# Altium footprint library WLE5_WB.PcbLib: 5 footprints
Each footprint in its own frame and in the unit in brackets; x right, y up, seen from the top. Pads: shape width x height; smd on the part's side, far side on the other; paste and mask are expansions set on the pad; w line width, h text height; cw(c..) or ccw(c..) is an arc to the next point about the centre after c.
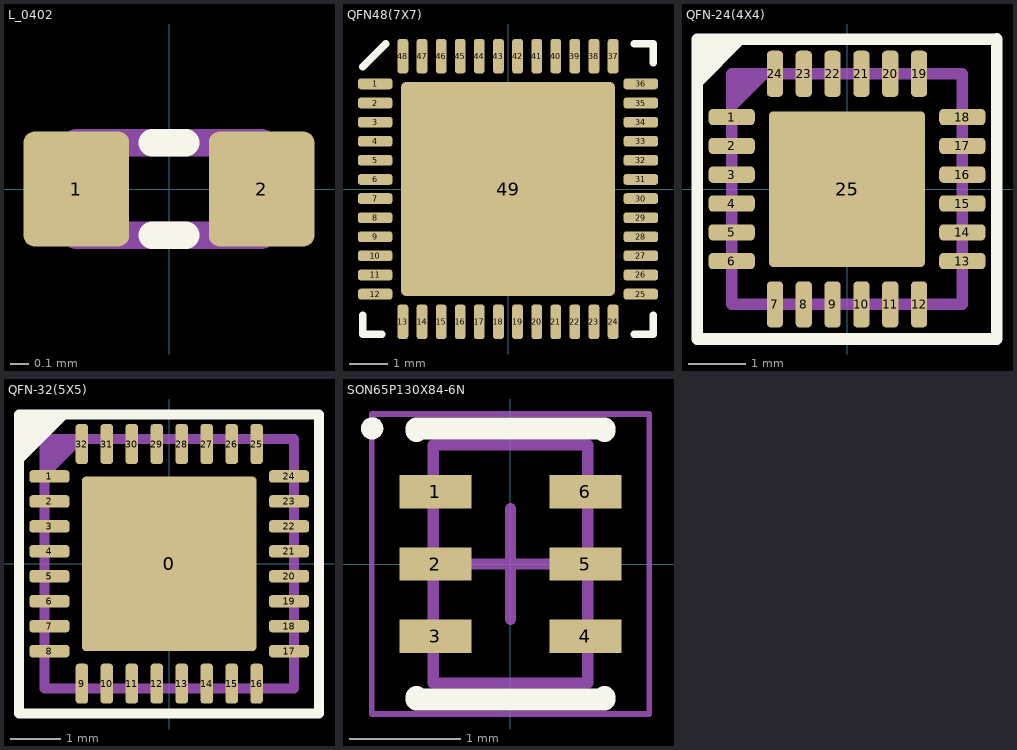
[diagram p0: the footprints below, top view; thin cyan lines are the x and y axes]

## L_0402 [mm]
pads (2):
  rrect20% 0.57x0.62 smd mask+0.06: 1(-0.5,0) 2(0.5,0)
Top Overlay:
  lines w0.15: -0.09,-0.25 0.09,-0.25 ; -0.09,0.25 0.09,0.25
Mechanical 7:
  lines w0.15: -0.5,-0.25 0.5,-0.25 0.5,0.25 -0.5,0.25 -0.5,-0.25
3D body "User Library-cap_0402.step": height 0.5, standoff 0, extent -0.5,-0.25 0.5,0.25

## QFN48(7X7) [mm]
pads (49):
  rrect50% 0.9x0.28 smd: 1(-3.475,2.75) 2(-3.475,2.25) 3(-3.475,1.75) 4(-3.475,1.25) 5(-3.475,0.75) 6(-3.475,0.25) 7(-3.475,-0.25) 8(-3.475,-0.75) 9(-3.475,-1.25) 10(-3.475,-1.75) 11(-3.475,-2.25) 12(-3.475,-2.75) 25(3.475,-2.75) 26(3.475,-2.25) 27(3.475,-1.75) 28(3.475,-1.25) 29(3.475,-0.75) 30(3.475,-0.25) 31(3.475,0.25) 32(3.475,0.75) 33(3.475,1.25) 34(3.475,1.75) 35(3.475,2.25) 36(3.475,2.75)
  rrect50% 0.28x0.9 smd: 13(-2.75,-3.475) 14(-2.25,-3.475) 15(-1.75,-3.475) 16(-1.25,-3.475) 17(-0.75,-3.475) 18(-0.25,-3.475) 19(0.25,-3.475) 20(0.75,-3.475) 21(1.25,-3.475) 22(1.75,-3.475) 23(2.25,-3.475) 24(2.75,-3.475) 37(2.75,3.475) 38(2.25,3.475) 39(1.75,3.475) 40(1.25,3.475) 41(0.75,3.475) 42(0.25,3.475) 43(-0.25,3.475) 44(-0.75,3.475) 45(-1.25,3.475) 46(-1.75,3.475) 47(-2.25,3.475) 48(-2.75,3.475)
  rrect5% 5.6x5.6 smd: 49(0,0)
Top Overlay:
  lines w0.2: -3.8,-3.3 -3.8,-3.8 -3.3,-3.8 ; -3.8,3.2 -3.2,3.8 ; 3.3,-3.8 3.8,-3.8 3.8,-3.3 ; 3.3,3.8 3.8,3.8 3.8,3.3
3D body "ALSRobot-QFN48 7x7.step": height 0.78, standoff -0.02, extent -3.51,-3.51 3.51,3.51

## QFN-24(4X4) [mm]
pads (25):
  rrect50% 0.8x0.28 smd mask+0.06: 1(-2,1.25) 2(-2,0.75) 3(-2,0.25) 4(-2,-0.25) 5(-2,-0.75) 6(-2,-1.25) 13(2,-1.25) 14(2,-0.75) 15(2,-0.25) 16(2,0.25) 17(2,0.75) 18(2,1.25)
  rrect50% 0.28x0.8 smd mask+0.06: 7(-1.25,-2) 8(-0.75,-2) 9(-0.25,-2) 10(0.25,-2) 11(0.75,-2) 12(1.25,-2) 19(1.25,2) 20(0.75,2) 21(0.25,2) 22(-0.25,2) 23(-0.75,2) 24(-1.25,2)
  rrect5% 2.7x2.7 smd paste-2 mask+0.06: 25(0,0)
Top Overlay:
  region: -2.6,2.6 -2.54,2.54 -1.778,2.54 -2.54,1.778
  lines w0.2: 2.6,2.6 -2.6,2.6 -2.6,-2.6 2.6,-2.6 2.6,2.603
Top Paste:
  circle w0.5: c-0.03,0.603 r0.146
  circle w0.5: c-0.03,-0.597 r0.146
Mechanical 7:
  region: -2,2 -1.968,2.032 -1.27,2.032 -2.032,1.27
  lines w0.2: -2,-2 2,-2 2,2 -2,2 -2,-2
3D body "QFN-24_4x4mm_P0.5mm.step": height 0.77, standoff 0, extent -2,-2 2,2

## QFN-32(5X5) [mm]
pads (33):
  rrect5% 3.5x3.5 smd paste-2 mask+0.06: 0(0,0)
  rrect50% 0.8x0.25 smd mask+0.06: 1(-2.4,1.75) 2(-2.4,1.25) 3(-2.4,0.75) 4(-2.4,0.25) 5(-2.4,-0.25) 6(-2.4,-0.75) 7(-2.4,-1.25) 8(-2.4,-1.75) 17(2.4,-1.75) 18(2.4,-1.25) 19(2.4,-0.75) 20(2.4,-0.25) 21(2.4,0.25) 22(2.4,0.75) 23(2.4,1.25) 24(2.4,1.75)
  rrect50% 0.25x0.8 smd mask+0.06: 9(-1.75,-2.4) 10(-1.25,-2.4) 11(-0.75,-2.4) 12(-0.25,-2.4) 13(0.25,-2.4) 14(0.75,-2.4) 15(1.25,-2.4) 16(1.75,-2.4) 25(1.75,2.4) 26(1.25,2.4) 27(0.75,2.4) 28(0.25,2.4) 29(-0.25,2.4) 30(-0.75,2.4) 31(-1.25,2.4) 32(-1.75,2.4)
Top Overlay:
  lines w0.2: -3.01,2.093 -2.11,2.993 ; -3.01,2.293 -2.31,2.993 ; -3.01,2.593 -2.61,2.993 ; -3.01,2.743 -2.76,2.993 ; -2.91,2.493 -2.51,2.893 ; -3.01,-3 -3.01,2.993 3,2.993 3,-3 -3.01,-3
Top Paste:
  circle w0.5: c-0.03,-0.597 r0.146
  circle w0.5: c-0.03,0.603 r0.146
Mechanical 7:
  lines w0.2: -2.5,1.8 -1.8,2.5 ; -2.5,2 -2,2.5 ; -2.5,2.3 -2.4,2.3 -2.2,2.5 -2.1,2.5 ; -2.5,-2.5 -2.5,2.5 2.5,2.5 2.5,-2.5 -2.5,-2.5
3D body "User Library-QFN32-1.step": height 0.95, standoff 0.02, extent -2.5,-2.5 2.501,2.5

## SON65P130X84-6N [mm] "SON, 6-Leads, Body 2,04x1,29mm, Pitch 0,65mm, IPC Medium Density"
height 0.84
pads (6):
  rect 0.65x0.3 smd: 1(-0.675,0.65) 2(-0.675,0) 3(-0.675,-0.65) 4(0.675,-0.65) 5(0.675,0) 6(0.675,0.65)
Top Overlay:
  circle w0.1: c-1.245,1.22 r0.05
  lines w0.2: -0.845,-1.2 -0.845,-1.22 0.845,-1.22 0.845,-1.2 ; -0.845,1.2 -0.845,1.22 0.845,1.22 0.845,1.2
Mechanical 13:
  lines w0.1: -0.695,-1.07 0.695,-1.07 0.695,1.07 -0.695,1.07 -0.695,-1.07
Mechanical 15:
  lines w0.05: -1.25,-1.35 1.25,-1.35 1.25,1.35 -1.25,1.35 -1.25,-1.35
  lines w0.1: -0.5,0 0.5,0 ; 0,-0.5 0,0.5
3D body "SON65P130X84-6N.step": height 0.84, standoff 0.1, extent -0.695,-1.07 0.695,1.07